# Altium footprint library Transistor.PcbLib: 5 footprints
Each footprint in its own frame and in the unit in brackets; x right, y up, seen from the top. Pads: shape width x height; smd on the part's side, far side on the other; paste and mask are expansions set on the pad; w line width, h text height; cw(c..) or ccw(c..) is an arc to the next point about the centre after c.
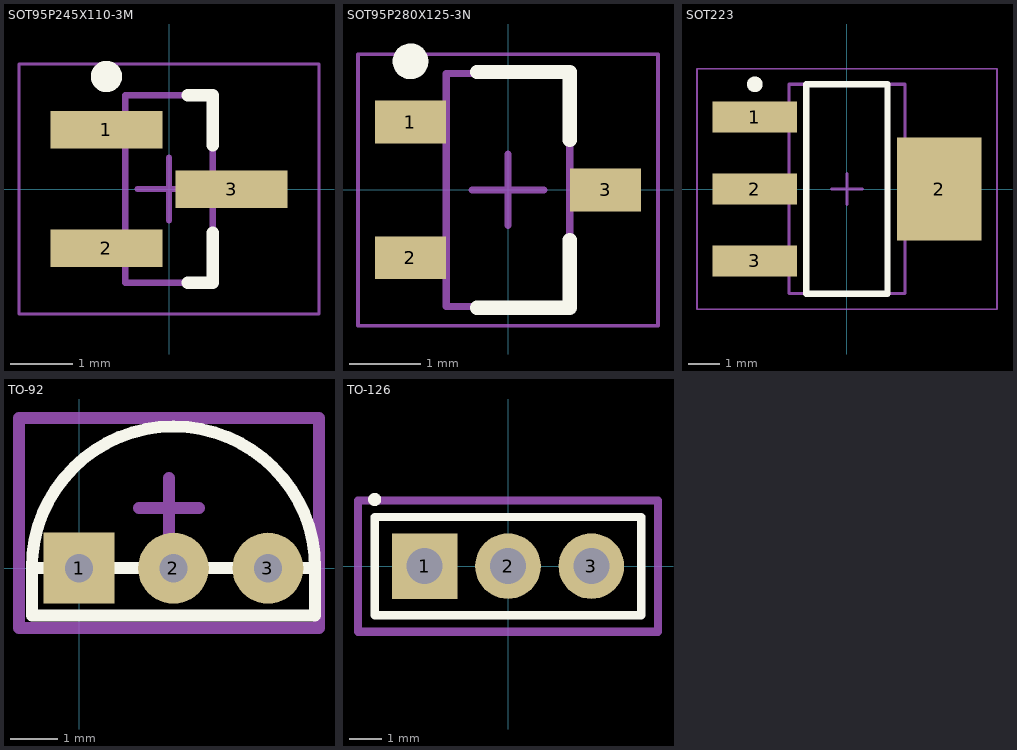
[diagram p0: the footprints below, top view; thin cyan lines are the x and y axes]

## SOT95P245X110-3M [mm] "SOT23, 3-Leads, Body 2,90x2,45mm, Pitch 0,95mm, IPC Low Density"
height 1.1
pads (3):
  rect 1.8x0.6 smd: 1(-1,0.95) 2(-1,-0.95) 3(1,0)
Top Overlay:
  circle w0.25: c-1,1.8 r0.125
  lines w0.2: 0.3,-1.5 0.7,-1.5 0.7,-0.7 ; 0.3,1.5 0.7,1.5 0.7,0.7
Mechanical 13:
  lines w0.1: -0.7,-1.5 0.7,-1.5 0.7,1.5 -0.7,1.5 -0.7,-1.5
Mechanical 15:
  lines w0.05: -2.4,-2 2.4,-2 2.4,2 -2.4,2 -2.4,-2
  lines w0.1: -0.5,0 0.5,0 ; 0,-0.5 0,0.5
3D body: height 1.1, standoff 0.05, extent -0.7,-1.5 0.7,1.5

## SOT95P280X125-3N [mm] "SOT23, 3-Leads, Body 3,04x2,80mm, Pitch 0,95mm, IPC Medium Density"
height 1.25
pads (3):
  rect 1x0.6 smd: 1(-1.365,0.95) 2(-1.365,-0.95) 3(1.365,0)
Top Overlay:
  circle w0.25: c-1.365,1.8 r0.125
  lines w0.2: -0.435,-1.65 0.865,-1.65 0.865,-0.7 ; -0.435,1.65 0.865,1.65 0.865,0.7
Mechanical 13:
  lines w0.1: -0.865,-1.63 0.865,-1.63 0.865,1.63 -0.865,1.63 -0.865,-1.63
Mechanical 15:
  lines w0.05: -2.1,-1.9 2.1,-1.9 2.1,1.9 -2.1,1.9 -2.1,-1.9
  lines w0.1: -0.5,0 0.5,0 ; 0,-0.5 0,0.5
3D body "SOT95P280X125-3N.step": height 1.25, standoff 0, extent -1.5,-1.63 1.5,1.63

## SOT223 [mm] "SOT223, 4-Leads, Body 6,50x7,00mm (avg), Pitch 2,30mm, IPC Low Density"
height 1.8
pads (4):
  rect 2.7x1 smd: 1(-2.95,2.3) 2(-2.95,0) 3(-2.95,-2.3)
  rect 2.7x3.3 smd: 2(2.95,0)
Top Overlay:
  circle w0.25: c-2.95,3.35 r0.125
  lines w0.2: -1.3,-3.35 -1.3,3.35 1.3,3.35 1.3,-3.35 -1.3,-3.35
Mechanical 13:
  lines w0.1: -1.85,-3.35 -1.85,3.35 1.85,3.35 1.85,-3.35 -1.85,-3.35
Mechanical 15:
  lines w0.05: -4.8,-3.85 -4.8,3.85 4.8,3.85 4.8,-3.85 -4.8,-3.85
  lines w0.1: -0.5,0 0.5,0 ; 0,-0.5 0,0.5
3D body: height 1.8, standoff 0.02, extent -1.85,-3.35 1.85,3.35

## TO-92 [mm]
height 10
pads (3):
  rect 1.5x1.5 hole 0.6: 1(0,0)
  round 1.5 hole 0.6: 2(2,0) 3(4,0)
Top Overlay:
  lines w0.254: -1,0 cw(c2,0) 5,0 ; -1,0 -1,-1 5,-1 5,0 ; -1,0 5,0 ; 5,0 5,0
Mechanical 13:
  lines w0.254: -1.27,-1.27 5.08,-1.27 5.08,3.175 -1.27,3.175 -1.27,-1.27
Mechanical 15:
  lines w0.254: 1.27,1.27 2.54,1.27 ; 1.905,0.635 1.905,1.905 ; -1.27,-1.27 5.08,-1.27 5.08,3.175 -1.27,3.175 -1.27,-1.27
3D body: height 8, standoff 3, extent -1,-1 5,3
3D body: height 3, standoff 0, extent -0.298,-0.299 0.3,0.299
3D body: height 3, standoff 0, extent 1.702,-0.299 2.3,0.299
3D body: height 3, standoff 0, extent 3.702,-0.299 4.3,0.299

## TO-126 [mm]
height 11
pads (3):
  rect 2x2 hole 1.1: 1(-2.54,0)
  round 2 hole 1.1: 2(0,0) 3(2.54,0)
Top Overlay:
  circle w0.2: c-4.064,2.032 r0.1
  lines w0.254: -4.064,-1.5 4.064,-1.5 4.064,1.5 -4.064,1.5 -4.064,-1.5
Mechanical 15:
  lines w0.254: -4.572,-2 -4.572,2 4.572,2 4.572,-2 -4.572,-2
3D body: height 13, standoff 2, extent -4.05,-1.5 3.95,1.5
3D body: height 2, standoff 0, extent -3,-0.25 -2,0.25
3D body: height 2, standoff 0, extent -0.5,-0.25 0.5,0.25
3D body: height 2, standoff 0, extent 2.04,-0.25 3.04,0.25